# Altium schematic symbol library CPC1393.SchLib: 1 symbol
Pins are listed as number, name and electrical type; pins without a type are passive.

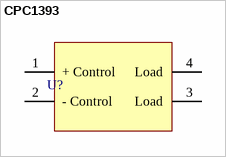
[diagram p0: symbol CPC1393]

## CPC1393
designator U?
pins: 1 + Control, 2 - Control, 3 Load, 4 Load